# Altium footprint library PCB - LEADLESS - SON - TI VSON-10 DSK0010.PcbLib: 1 footprints
Each footprint in its own frame and in the unit in brackets; x right, y up, seen from the top. Pads: shape width x height; smd on the part's side, far side on the other; paste and mask are expansions set on the pad; w line width, h text height; cw(c..) or ccw(c..) is an arc to the next point about the centre after c.
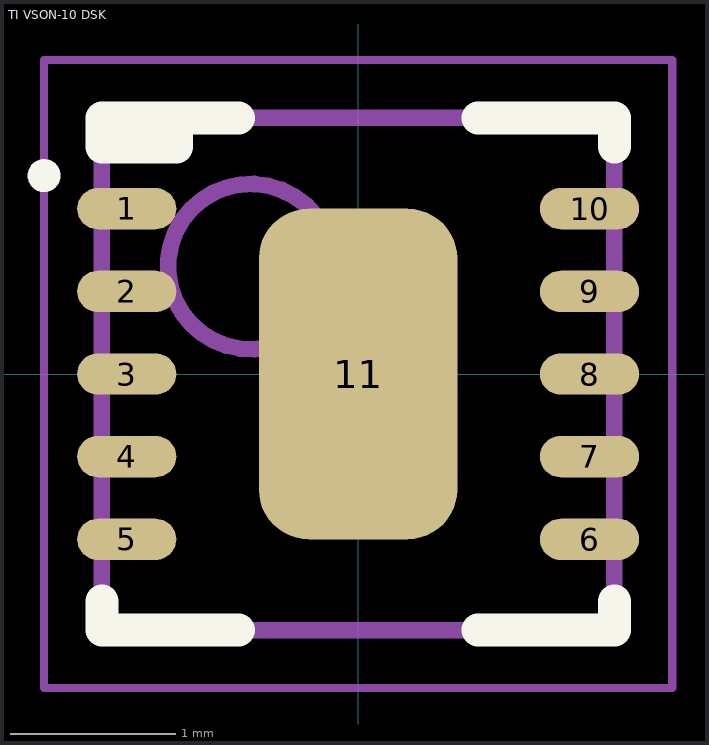
[diagram p0: the footprint, top view; thin cyan lines are the x and y axes]

## TI VSON-10 DSK [mm] "VSON, 10-Leads, Body 3.00x3.00mm, Pitch 0.50mm, Thermal Pad 2.40x1.65mm"
height 1
pads (11):
  oval 0.6x0.25 smd: 1(-1.4,1) 2(-1.4,0.5) 3(-1.4,0) 4(-1.4,-0.5) 5(-1.4,-1) 6(1.4,-1) 7(1.4,-0.5) 8(1.4,0) 9(1.4,0.5) 10(1.4,1)
  rrect50% 1.2x2 smd: 11(0,0)
Top Overlay:
  circle w0.1: c-1.9,1.2 r0.05
  lines w0.2: -1.55,-1.375 -1.55,-1.55 -0.725,-1.55 ; -1.1,1.55 -1.1,1.375 -1.55,1.375 -1.55,1.55 -0.725,1.55 ; 0.725,-1.55 1.55,-1.55 1.55,-1.375 ; 0.725,1.55 1.55,1.55 1.55,1.375
Top Paste:
  region: -0.55,-0.1 -0.562,-0.102 -0.584,-0.117 -0.598,-0.138 -0.602,-0.163 -0.6,-0.175 -0.6,-0.673 -0.605,-0.733 -0.568,-0.848 -0.49,-0.94 -0.383,-0.995 -0.323,-1 0.3,-1 0.36,-1 0.47,-0.954 0.554,-0.87 0.6,-0.76 0.6,-0.7 0.6,-0.175 0.6,-0.16 0.589,-0.133 0.567,-0.111 0.54,-0.1 0.525,-0.1
  region: 0.55,0.1 0.562,0.102 0.584,0.117 0.598,0.138 0.602,0.163 0.6,0.175 0.6,0.673 0.605,0.733 0.568,0.848 0.49,0.94 0.383,0.995 0.323,1 -0.3,1 -0.36,1 -0.47,0.954 -0.554,0.87 -0.6,0.76 -0.6,0.7 -0.6,0.175 -0.6,0.16 -0.589,0.133 -0.567,0.111 -0.54,0.1 -0.525,0.1
Top Assembly:
  circle w0.1: c-0.65,0.65 r0.5
  lines w0.1: -1.55,-1.55 -1.55,1.55 1.55,1.55 1.55,-1.55 -1.55,-1.55
Top Component Center:
  lines w0.1: -0.5,0 0.5,0 ; 0,-0.5 0,0.5
Top Courtyard:
  lines w0.05: -1.9,-1.9 -1.9,1.9 1.9,1.9 1.9,-1.9 -1.9,-1.9
3D body "TI VSON-10 DRC0010U.step": height 1, standoff 0, extent -1.551,-1.55 1.551,1.55